# Altium schematic symbol library Walkline-IoT.SchLib: 2 symbols
Pins are listed as number, name and electrical type; pins without a type are passive.

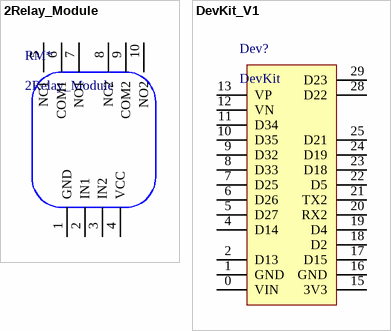
[diagram p0: symbols 2Relay_Module to DevKit_V1]

## 2Relay_Module
designator RM*
pins: 1 GND, 2 IN1, 3 IN2, 4 VCC, 5 NC1, 6 COM1, 7 NO1, 8 NC2, 9 COM2, 10 NO2

## DevKit_V1
designator Dev?, comment DevKit
footprint DevKit
pins: 0 VIN, 1 GND, 2 D13, 3 D12 hidden, 4 D14, 5 D27, 6 D26, 7 D25, 8 D33, 9 D32, 10 D35, 11 D34, 12 VN, 13 VP, 14 EN hidden, 15 3V3, 16 GND, 17 D15, 18 D2, 19 D4, 20 RX2, 21 TX2, 22 D5, 23 D18, 24 D19, 25 D21, 26 RX0 hidden, 27 TX0 hidden, 28 D22, 29 D23